# EAGLE library part TPS6217 (library texas-usbc)
TPS6217x 28-V, 0.5-A Step-Down Converter With Sleep Mode • DCS-ControlTM Topology • Input Voltage Range 4.75 V to 28 V • Quiescent Current Typically 4.8 μA (Sleep Mode) • 100% Duty Cycle Mode • Active Output Discharge • Power Good Output • Output Current of 500 mA • Output Voltage Range 1 VDC to 6 V • Switching Frequency of Typically 1 MHz • Seamless Power Save Mode Transition • Undervoltage Lockout • Short Circuit Protection • Over Temperature Protection • Available in 2-mm × 3-mm 10-pin WSON Package
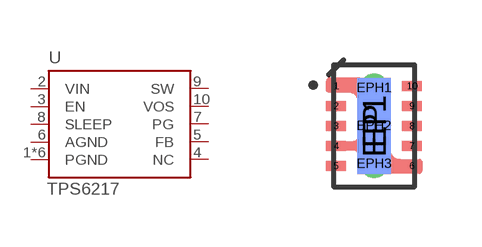
[diagram p5: symbol with the pads of TPS6217; footprint TPS6217]

Designator prefix U

## TPS6217  [TPS6217]
1  PGND  sup
2  VIN  pwr
3  EN  in
4  NC  sup
5  FB  in
6  AGND  sup
7  PG  out
8  SLEEP  in
9  SW  out
10  VOS  in
EP  PGND  sup
EP1  PGND  sup
EPH1  PGND  sup
EPH2  PGND  sup
EPH3  PGND  sup

## Footprint TPS6217 (pad centres in mm)
smd 0.5 x 0.25: 1 -0.95,1; 2 -0.95,0.5; 3 -0.95,0; 4 -0.95,-0.5; 5 -0.95,-1; 6 0.95,-1; 7 0.95,-0.5; 8 0.95,0; 9 0.95,0.5; 10 0.95,1
smd 0.84 x 2.4: EP 0,0
smd 0.84 x 2.4 bottom: EP1 0,0
drill 0.2 pad 0.254: EPH1 0,0.95; EPH2 0,0; EPH3 0,-0.95